# Altium schematic symbol library 2021-03-27_07-08-52.SchLib: 2 symbols
Pins are listed as number, name and electrical type; pins without a type are passive.

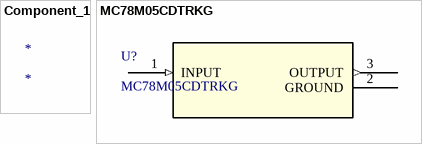
[diagram p0: symbols Component_1 to MC78M05CDTRKG]

## Component_1
designator *

## MC78M05CDTRKG
designator U?
No Description Available; Vendor: ON Semiconductor; SourceLibrary: ONSemi_2017-12-12_5; Manufacturer_Part_Number: MC78M05CDTRKG; Copyright: Copyright (C) 2016 Accelerated Designs. All rights reserved; RefDes: RefDes; Type: DEV
footprint DPAK-3_ONS
pins: 1 INPUT (in), 2 GROUND (power), 3 OUTPUT (out)